# EAGLE library part DSPIC33EP32MC202 (library IC & Transistor)
dsPIC33EP32MC202 Created by: Wai Weng
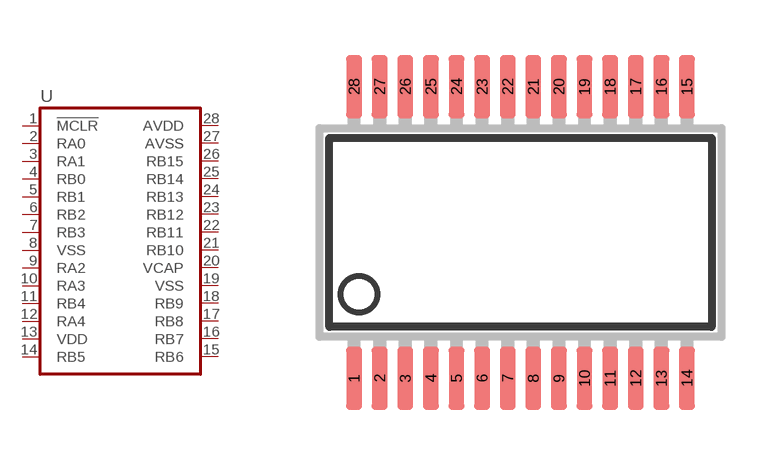
[diagram p68: symbol with the pads of SSOP-28; footprint SSOP-28]

Designator prefix U

## DSPIC33EP32MC202 (DESC: S dsPIC33EP32MC202-I/SS SSOP-28; MF: Microchip Technology; MPN: DSPIC33EP32MC202-I/SS)  [SSOP-28]
1  !MCLR
2  RA0
3  RA1
4  RB0
5  RB1
6  RB2
7  RB3
8  VSS
9  RA2
10  RA3
11  RB4
12  RA4
13  VDD
14  RB5
15  RB6
16  RB7
17  RB8
18  RB9
19  VSS
20  VCAP
21  RB10
22  RB11
23  RB12
24  RB13
25  RB14
26  RB15
27  AVSS
28  AVDD

## Footprint SSOP-28 (pad centres in mm)
Shrink Small Outline Package (SSOP) Size: 10.2 x 5.3mm Lead Pitch: 0.65mm
smd 0.4 x 1.6: 1 -4.225,-3.7; 2 -3.575,-3.7; 3 -2.925,-3.7; 4 -2.275,-3.7; 5 -1.625,-3.7; 6 -0.975,-3.7; 7 -0.325,-3.7; 8 0.325,-3.7; 9 0.975,-3.7; 10 1.625,-3.7; 11 2.275,-3.7; 12 2.925,-3.7; 13 3.575,-3.7; 14 4.225,-3.7; 15 4.225,3.7; 16 3.575,3.7; 17 2.925,3.7; 18 2.275,3.7; 19 1.625,3.7; 20 0.975,3.7; 21 0.325,3.7; 22 -0.325,3.7; 23 -0.975,3.7; 24 -1.625,3.7; 25 -2.275,3.7; 26 -2.925,3.7; 27 -3.575,3.7; 28 -4.225,3.7